# Altium schematic symbol library trans1.SchLib: 1 symbol
Pins are listed as number, name and electrical type; pins without a type are passive.

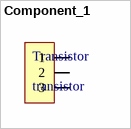
[diagram p0: symbol Component_1]

## Component_1
designator Transistor, comment transistor
footprint transistor
pins: 1, 2, 3